# EAGLE library part MICS-SMD18 (library rapid_3.5mm_jack)
CONNECTOR
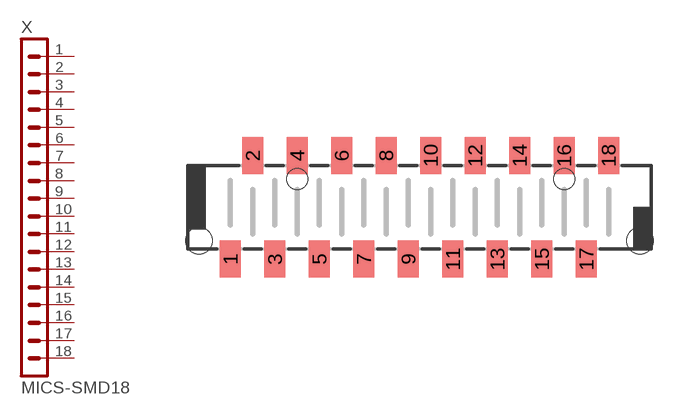
[diagram p16: symbol with the pads of MICSMD18; footprint MICSMD18]

Designator prefix X

## MICS-SMD18 (OC_FARNELL: unknown; OC_NEWARK: unknown)  [MICSMD18]
1  1  pas
2  2  pas
3  3  pas
4  4  pas
5  5  pas
6  6  pas
7  7  pas
8  8  pas
9  9  pas
10  10  pas
11  11  pas
12  12  pas
13  13  pas
14  14  pas
15  15  pas
16  16  pas
17  17  pas
18  18  pas

## Footprint MICSMD18 (pad centres in mm)
CONNECTOR
smd 1.2 x 2.1: 1 -10.795,-2.959; 2 -9.525,2.959; 3 -8.255,-2.959; 4 -6.985,2.959; 5 -5.715,-2.959; 6 -4.445,2.959; 7 -3.175,-2.959; 8 -1.905,2.959; 9 -0.635,-2.959; 10 0.635,2.959; 11 1.905,-2.959; 12 3.175,2.959; 13 4.445,-2.959; 14 5.715,2.959; 15 6.985,-2.959; 16 8.255,2.959; 17 9.525,-2.959; 18 10.795,2.959
hole 1.5 at 12.595,-1.912
hole 1.5 at -12.595,-1.912
hole 1.2 at -6.985,1.6
hole 1.2 at 8.255,1.6